# EAGLE library part 621X1421021 (library Wurth_Elektronik_Electromechanic_Board_to_Board_Connectors_rev16a)
WR-PHD 1.27mm Dual SMT Pin Header H=3.80 mm, 14 Pins=>Code : Con_BTB_PHD_1.27_2_621x1421021(Packaging:x = 0: Tube x = 3: Tape & Reel with Cap) <http://katalog.we-online.de/media/thumbs2/eican/thb_Con_BTB_PHD_1.27_2_6210xx21021_pf2.jpg> 6210xx21021 Details see: http://katalog.we-online.de/en/em/621_0xx_210_21 6213xx21021 Details see: http://katalog.we-online.de/en/em/PHD_1_27_SMT_DUAL_PIN_HEADER_REEL_6213XX21021 2014 (C) Würth Elektronik
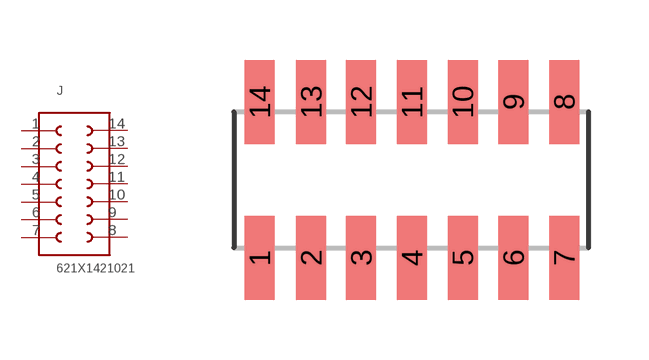
[diagram p292: symbol with the pads of 621X1421021; footprint 621X1421021]

Designator prefix J

## 621X1421021  [621X1421021]
1  1  pas
2  2  pas
3  3  pas
4  4  pas
5  5  pas
6  6  pas
7  7  pas
8  8  pas
9  9  pas
10  10  pas
11  11  pas
12  12  pas
13  13  pas
14  14  pas

## Footprint 621X1421021 (pad centres in mm)
WR-PHD 1.27mm Dual SMT Pin Header H=3.80 mm, 14 Pins
smd 0.75 x 2.1: 1 -4.445,-1.95; 2 -3.157,-1.95; 3 -1.905,-1.95; 4 -0.635,-1.95; 5 0.635,-1.95; 6 1.905,-1.95; 7 3.175,-1.95; 8 3.175,1.95; 9 1.905,1.95; 10 0.635,1.95; 11 -0.635,1.95; 12 -1.905,1.95; 13 -3.157,1.95; 14 -4.445,1.95